# Altium schematic symbol library FAN73711.Schlib: 1 symbol
Pins are listed as number, name and electrical type; pins without a type are passive.

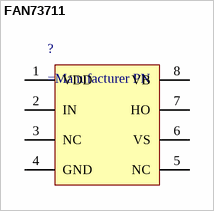
[diagram p0: symbol FAN73711]

## FAN73711
designator ?
High Side Gate Driver
pins: 1 VDD, 2 IN, 3 NC, 4 GND, 5 NC, 6 VS, 7 HO, 8 VB